# Altium footprint library 2020-06-20_02-15-55.PcbLib: 1 footprints
Each footprint in its own frame and in the unit in brackets; x right, y up, seen from the top. Pads: shape width x height; smd on the part's side, far side on the other; paste and mask are expansions set on the pad; w line width, h text height; cw(c..) or ccw(c..) is an arc to the next point about the centre after c.
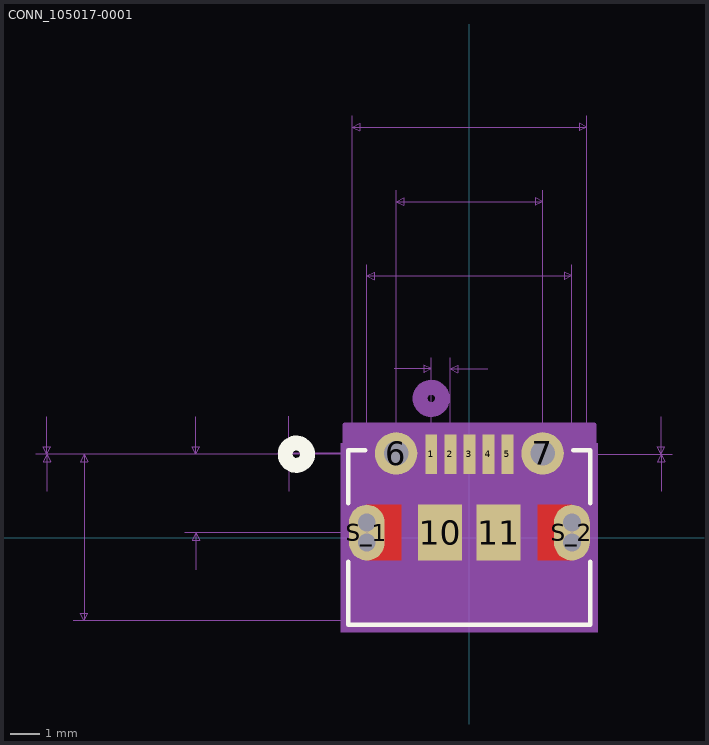
[diagram p0: the footprint, top view; thin cyan lines are the x and y axes]

## CONN_105017-0001 [mil]
pads (15):
  rect 16x53 smd paste+0 mask+0: 1(-51.18,112) 2(-25.59,112) 3(0,112) 4(25.59,112) 5(51.18,112)
  round 57 hole 33: 6(-98.43,112.98) 7(98.43,112.98)
  rect 59x75 smd: 10(-39.37,6.68) 11(39.37,6.68)
  oval 48x75 hole 1 mask+0: S_1(-137.8,6.68) S_2(137.8,6.68)
  round 24 hole 24: S_1_H1(-137.8,20.18) S_1_H2(-137.8,-6.82) S_2_H1(137.8,20.18) S_2_H2(137.8,-6.82)
Top Layer:
  region: 91.8,-30.82 91.8,44.19 137.8,44.19 137.8,-30.82
  region: -91.8,-30.82 -91.8,44.19 -137.8,44.19 -137.8,-30.82
Top Overlay:
  circle w20: c-232.5,112 r15
  lines w6: -162.5,-32.59 -162.5,-117 162.5,-117 162.5,-32.59 ; -162.5,45.96 -162.5,117 -139.83,117 ; 139.83,117 162.5,117 162.5,45.96
Bottom Overlay:
  circle w20: c-232.5,112 r15
Top Paste:
  region: -91.8,-30.82 -91.8,44.19 -137.8,44.19 -137.8,-30.82
  region: 91.8,-30.82 91.8,44.19 137.8,44.19 137.8,-30.82
Top Solder:
  region: -91.8,-30.82 -91.8,44.19 -137.8,44.19 -137.8,-30.82
  region: 91.8,-30.82 91.8,44.19 137.8,44.19 137.8,-30.82
Mechanical 5:
  region: -172.5,127 172.5,127 172.5,-127 -172.5,-127
Mechanical 7:
  lines w1: -567.5,62 -567.5,112 ; -567.5,162 -567.5,112 ; -532.5,-112 -157.5,-112 ; -532.5,112 -157.5,112 ; -382.5,6.68 137.8,6.68 137.8,366.48 ; -382.5,112 0,112 ; -367.5,-43.31 -367.5,6.68 ; -367.5,162 -367.5,112 ; -257.5,112 0,112 ; -257.5,112.98 98.43,112.98 98.43,466.48 ; -242.5,62 -242.5,112 ; -242.5,162.98 -242.5,112.98 ; -157.5,566.48 -157.5,112 ; -137.8,6.68 -137.8,366.48 ; -101.18,226.48 -51.18,226.48 ; -98.43,112.98 -98.43,466.48 ; -51.18,241.48 -51.18,112 ; -25.59,112 -25.59,241.48 ; 24.41,226.48 -25.59,226.48 ; 157.5,112 157.5,566.48 ; 257.5,62 257.5,112 ; 257.5,162 257.5,112 ; -567.5,112 -572.5,122 -562.5,122 -567.5,112 ; -567.5,112 -572.5,102 -562.5,102 -567.5,112 ; -517.5,-112 -517.5,112 ; -517.5,-112 -522.5,-102 -512.5,-102 -517.5,-112 ; -517.5,112 -522.5,102 -512.5,102 -517.5,112 ; -367.5,6.68 -372.5,-3.31 -362.5,-3.31 -367.5,6.68 ; -367.5,112 -372.5,122 -362.5,122 -367.5,112 ; -242.5,112 -247.5,102 -237.5,102 -242.5,112 ; -242.5,112.98 -247.5,122.98 -237.5,122.98 -242.5,112.98 ; -157.5,112 -582.5,112 0,112 ; -157.5,551.48 157.5,551.48 ; -157.5,551.48 -147.5,556.48 -147.5,546.48 -157.5,551.48 ; -137.8,351.48 137.8,351.48 ; -137.8,351.48 -127.8,356.48 -127.8,346.48 -137.8,351.48 ; -98.43,451.48 98.43,451.48 ; -98.43,451.48 -88.43,456.48 -88.43,446.48 -98.43,451.48 ; -51.18,112 272.5,112 -51.18,112 ; -51.18,226.48 -61.18,231.48 -61.18,221.48 -51.18,226.48 ; -25.59,226.48 -15.59,231.48 -15.59,221.48 -25.59,226.48 ; 98.43,451.48 88.43,456.48 88.43,446.48 98.43,451.48 ; 137.8,351.48 127.8,356.48 127.8,346.48 137.8,351.48 ; 157.5,551.48 147.5,556.48 147.5,546.48 157.5,551.48 ; 257.5,112 252.5,122 262.5,122 257.5,112 ; 257.5,112 252.5,102 262.5,102 257.5,112
  text "Default Padstyle: RX16Y53D0T" at -350,-272 h50
  text "1st Mtg Padstyle: EX57Y57D33P" at -362.5,-347 h50
  text "2nd Mtg Padstyle: OX39Y75D24P" at -362.5,-422 h50
  text "3rd Mtg Padstyle: RX59Y75D0T" at -350,-497 h50
  text "Left Mtg Padstyle: EX60Y60D30P" at -375,-572 h50
  text "Right Mtg Padstyle: EX60Y60D30P" at -387.5,-647 h50
  text "Alt Padstyle 1: OX60Y90D30P" at -337.5,-722 h50
  text "Alt Padstyle 2: OX90Y60D30P" at -337.5,-797 h50
  text "0.026in/0.65mm" at -125.89,246.48 h25
  text "0.276in/7mm" at -68.75,371.48 h25
  text "0.197in/5mm" at -68.75,471.48 h25
  text "0.315in/8.001mm" at -93.75,571.48 h25
  text "0in/0mm" at 277.5,99.5 h25
  text "0.001in/0.025mm" at -450,99.99 h25
  text "-0.105in/-2.675mm" at -600,46.84 h25
  text "0in/0mm" at -675,99.5 h25
  text "0.224in/5.69mm" at -712.5,-12.5 h25
Mechanical 13:
  circle w20: c-51.18,187 r15
  lines w1: -157.5,-112 157.5,-112 157.5,112 -157.5,112 -157.5,-112
Mechanical 15:
  region: 167.5,151.48 -167.5,151.48 -167.5,-122 167.5,-122
  lines w6: -167.5,-122 -167.5,151.48 167.5,151.48 167.5,-122 -167.5,-122
Multi-Layer:
  lines w24: -137.8,-6.82 -137.8,20.18 ; 137.8,-6.82 137.8,20.18
3D body: height 10, standoff 0, extent 0,0 10,10